# EAGLE library part TPS630250 (library ears-pq)
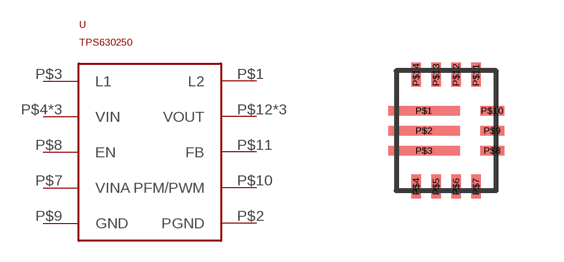
[diagram p0: symbol with the pads of VQFN14; footprint VQFN14]

Designator prefix -

## TPS630250  [VQFN14]
P$1  L2
P$2  PGND
P$3  L1
P$4  VIN
P$5  VIN
P$6  VIN
P$7  VINA
P$8  EN
P$9  GND
P$10  PFM/PWM
P$11  FB
P$12  VOUT
P$13  VOUT
P$14  VOUT

## Footprint VQFN14 (pad centres in mm)
smd 1.79 x 0.24: P$1 0.695,2; P$2 0.695,1.5; P$3 0.695,1
smd 0.24 x 0.6: P$4 0.5,0.1; P$5 1,0.1; P$6 1.5,0.1; P$7 2,0.1; P$11 2,2.9; P$12 1.5,2.9; P$13 1,2.9; P$14 0.5,2.9
smd 0.6 x 0.24: P$8 2.4,1; P$9 2.4,1.5; P$10 2.4,2